# Altium schematic symbol library CONN1X3.Schlib: 1 symbol
Pins are listed as number, name and electrical type; pins without a type are passive.

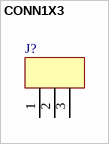
[diagram p0: symbol CONN1X3]

## CONN1X3
designator J?
pins: 1, 2, 3
1 alternate drawing of the same symbol